# Altium schematic symbol library Schlib1.SchLib: 3 symbols
Pins are listed as number, name and electrical type; pins without a type are passive.

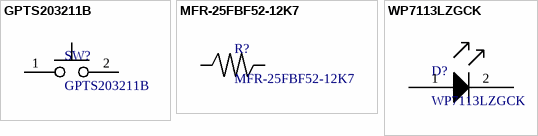
[diagram p0: symbols GPTS203211B to WP7113LZGCK]

## GPTS203211B
designator SW?
Pushbutton Switch SPST Standard Through Hole
footprint GPTS203211B (Pushbutton Switch SPST Standard Through Hole)
pins: 1, 2

## MFR-25FBF52-12K7
designator R?
RES 12.7K OHM 1% 1/4W AXIAL
footprint RESAD1100W55L680D260
pins: 1, 2

## WP7113LZGCK
designator D?
Green 525nm LED Indication - Discrete 2.65V Radial
footprint WP7113LZGCK
pins: 1, 2